# EAGLE library part CMU-ARTFAB_SWITCH_DPDT (library piezo-preamp-tickler_V2-RevG)
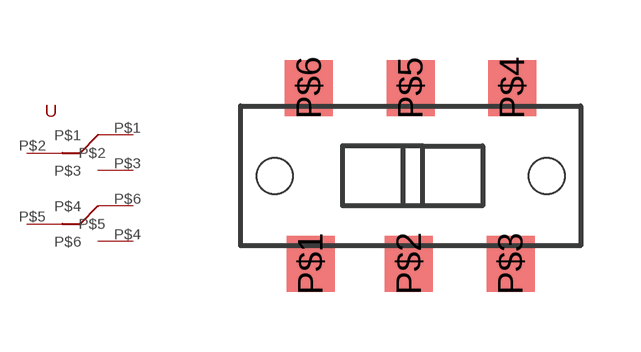
[diagram p2: symbol with the pads of CMU-ARTFAB_SWITCH_DPDT_CL-SB-12B; footprint CMU-ARTFAB_SWITCH_DPDT_CL-SB-12B]

Designator prefix -

## CMU-ARTFAB_SWITCH_DPDT  [CMU-ARTFAB_SWITCH_DPDT_CL-SB-12B]
P$1  P$1
P$2  P$2
P$3  P$3
P$4  P$6
P$5  P$5
P$6  P$4

## Footprint CMU-ARTFAB_SWITCH_DPDT_CL-SB-12B (pad centres in mm)
smd 1.2 x 1.4: P$1 -2.5,-2.2; P$2 -0.04,-2.2; P$3 2.5,-2.2; P$4 2.54,2.2; P$5 0,2.2; P$6 -2.54,2.2
hole 0.9 at -3.4,0
hole 0.9 at 3.4,0